# Altium integrated library RASPBERRY_PI_PICO_W.IntLib: 1 symbol
Pins are listed as number, name and electrical type; pins without a type are passive.

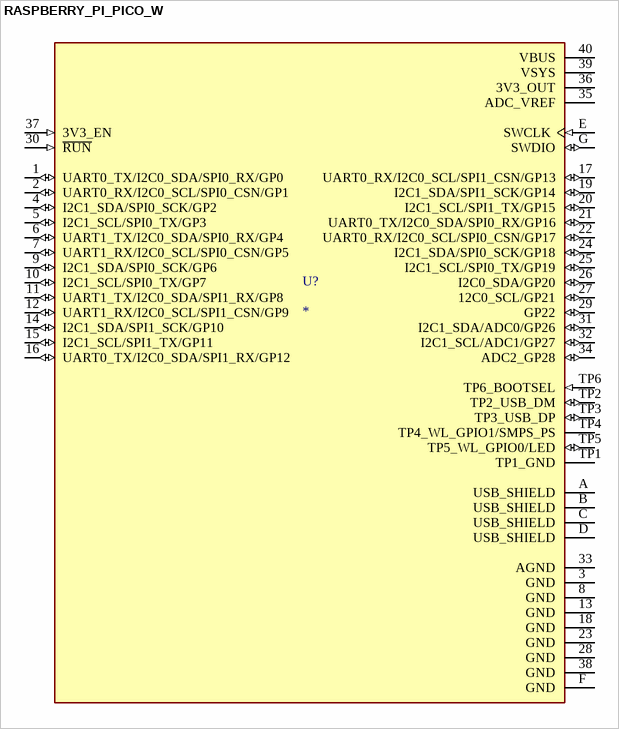
[diagram p0: symbol RASPBERRY_PI_PICO_W]

## RASPBERRY_PI_PICO_W
designator U?
Raspberry Pi Board, Arm Cortex-M0+; Silicon Manufacturer:Raspberry Pi; No. Of Bits:32Bit; Silicon Family Name:-; Core Architecture:Arm; Core Sub-Architecture:Cortex-M0+; Silicon Core Number:Rp2040; Product Range:Raspberry Pi Pico Rohs Compliant: Yes |Raspberry-Pi RASPBERRY PI PICO W; SnapEDA_Link: https://www.snapeda.com/parts/RASPBERRY%20PI%20PICO%20W/Raspberry+Pi/view-part/?ref=snap; Package: None; Value: *; MF: Raspberry Pi; MP: RASPBERRY PI PICO W; Check_prices: https://www.snapeda.com/parts/RASPBERRY%20PI%20PICO%20W/Raspberry+Pi/view-part/?ref=eda
footprint MODULE_RASPBERRY_PI_PICO_W
pins: 1 UART0_TX/I2C0_SDA/SPI0_RX/GP0 (io), 2 UART0_RX/I2C0_SCL/SPI0_CSN/GP1 (io), 3 GND (power), 4 I2C1_SDA/SPI0_SCK/GP2 (io), 5 I2C1_SCL/SPI0_TX/GP3 (io), 6 UART1_TX/I2C0_SDA/SPI0_RX/GP4 (io), 7 UART1_RX/I2C0_SCL/SPI0_CSN/GP5 (io), 8 GND (power), 9 I2C1_SDA/SPI0_SCK/GP6 (io), 10 I2C1_SCL/SPI0_TX/GP7 (io), 11 UART1_TX/I2C0_SDA/SPI1_RX/GP8 (io), 12 UART1_RX/I2C0_SCL/SPI1_CSN/GP9 (io), 13 GND (power), 14 I2C1_SDA/SPI1_SCK/GP10 (io), 15 I2C1_SCL/SPI1_TX/GP11 (io), 16 UART0_TX/I2C0_SDA/SPI1_RX/GP12 (io), 17 UART0_RX/I2C0_SCL/SPI1_CSN/GP13 (io), 18 GND (power), 19 I2C1_SDA/SPI1_SCK/GP14 (io), 20 I2C1_SCL/SPI1_TX/GP15 (io), 21 UART0_TX/I2C0_SDA/SPI0_RX/GP16 (io), 22 UART0_RX/I2C0_SCL/SPI0_CSN/GP17 (io), 23 GND (power), 24 I2C1_SDA/SPI0_SCK/GP18 (io), 25 I2C1_SCL/SPI0_TX/GP19 (io), 26 I2C0_SDA/GP20 (io), 27 12C0_SCL/GP21 (io), 28 GND (power), 29 GP22 (io), 30 ~{RUN} (in), 31 I2C1_SDA/ADC0/GP26 (io), 32 I2C1_SCL/ADC1/GP27 (io), 33 AGND (power), 34 ADC2_GP28 (io), 35 ADC_VREF (power), 36 3V3_OUT (power), 37 3V3_EN (in), 38 GND (power), 39 VSYS (power), 40 VBUS (power), A USB_SHIELD (power), B USB_SHIELD (power), C USB_SHIELD (power), D USB_SHIELD (power), E SWCLK (in), F GND (power), G SWDIO (io), TP1 TP1_GND (power), TP2 TP2_USB_DM (io), TP3 TP3_USB_DP (io), TP4 TP4_WL_GPIO1/SMPS_PS, TP5 TP5_WL_GPIO0/LED (io), TP6 TP6_BOOTSEL (in)